# Altium schematic symbol library ESK227M050AH1EA.SchLib: 1 symbol
Pins are listed as number, name and electrical type; pins without a type are passive.

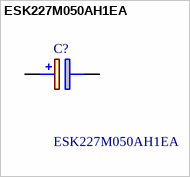
[diagram p0: symbol ESK227M050AH1EA]

## ESK227M050AH1EA
designator C?
220 F 50 V Aluminum Electrolytic Capacitors Radial, Can 2000 Hrs @ 85C; Manufacturer_Name: KEMET; Geometry.Height: 13.5mm; Manufacturer_Part_Number: ESK227M050AH1EA; Mouser Part Number: 80-ESK227M050AH1EA; Mouser Price/Stock: https://www.mouser.co.uk/ProductDetail/KEMET/ESK227M050AH1EA?qs=w9hhVRgtvfnOjgdKRGLJ5g%3D%3D; Arrow Part Number: ESK227M050AH1EA; Arrow Price/Stock: https://www.arrow.com/en/products/esk227m050ah1ea/kemet-corporation; Datasheet Link: https://connect.kemet.com:7667/gateway/IntelliData-ComponentDocumentation/1.0/download/datasheet/ESK227M050AH9EA.pdf
footprint CAPPRD500W60D1000H1350
pins: 1 +, 2 -